# EAGLE library part CONNETTORI_0056_USB-B-S-RA-WT-SPCC (library MEGA2560_Rev3e)
USB - B
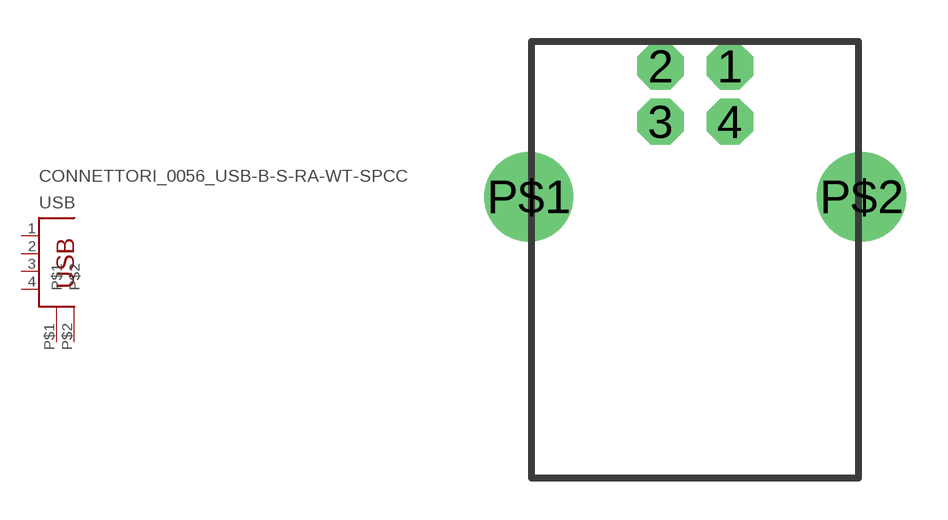
[diagram p0: symbol with the pads of CONNETTORI_PN61729; footprint CONNETTORI_PN61729]

Designator prefix USB

## CONNETTORI_0056_USB-B-S-RA-WT-SPCC (MONTHLY_USAGE: _____; PART_NUMBER: USB-B-S-RA-WT-SPCC; PRICE: _____; SUPPLIER: _____; TYPE: Connettori)  [CONNETTORI_PN61729]
1  1
2  2
3  3
4  4
P$1  P$1
P$2  P$2

## Footprint CONNETTORI_PN61729 (pad centres in mm)
BERG
drill 0.95 pad 1.676 octagon: 1 1.25,4.71; 2 -1.25,4.71; 3 -1.25,2.71; 4 1.25,2.71
drill 2.2: P$1 -6,0; P$2 6,0